# Altium footprint library STM32f103VET6.PcbLib: 28 footprints (part 2 of 2)
Each footprint in its own frame and in the unit in brackets; x right, y up, seen from the top. Pads: shape width x height; smd on the part's side, far side on the other; paste and mask are expansions set on the pad; w line width, h text height; cw(c..) or ccw(c..) is an arc to the next point about the centre after c.
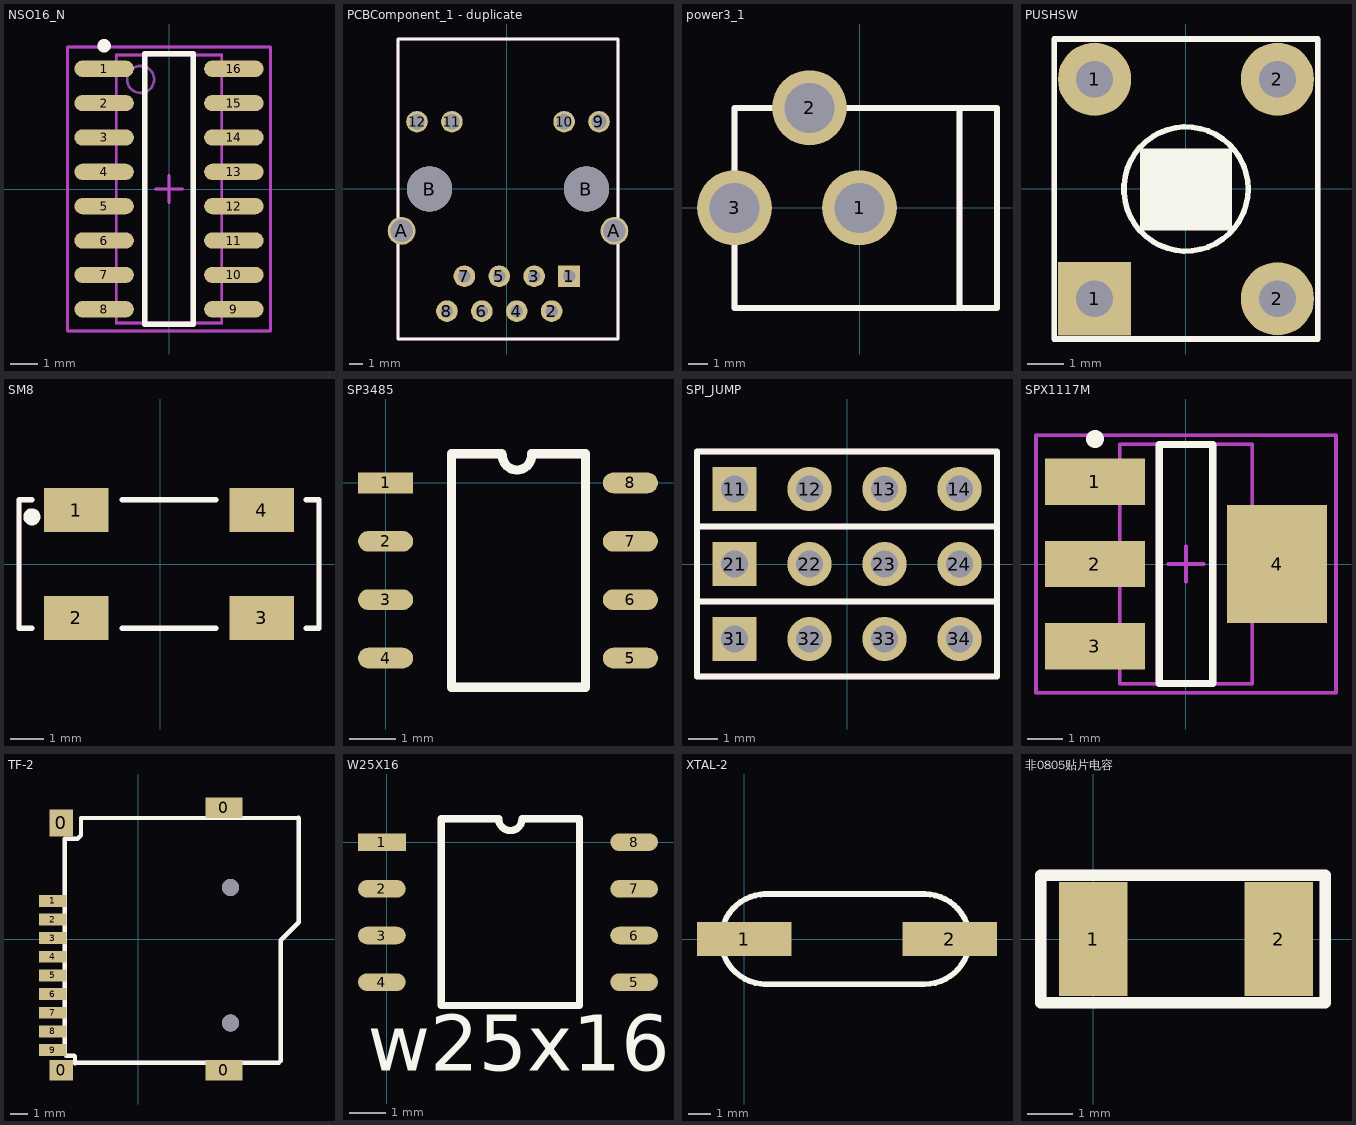
[diagram p1: the footprints below, top view; thin cyan lines are the x and y axes]

## NSO16_N [mm] "SOIC, 16-Leads, Body 9.9x3.9mm, Pitch 1.27mm, IPC Medium Density"
height 1.75
pads (16):
  oval 2.2x0.6 smd: 1(-2.4,4.445) 2(-2.4,3.175) 3(-2.4,1.905) 4(-2.4,0.635) 5(-2.4,-0.635) 6(-2.4,-1.905) 7(-2.4,-3.175) 8(-2.4,-4.445) 9(2.4,-4.445) 10(2.4,-3.175) 11(2.4,-1.905) 12(2.4,-0.635) 13(2.4,0.635) 14(2.4,1.905) 15(2.4,3.175) 16(2.4,4.445)
Top Overlay:
  circle w0.25: c-2.4,5.295 r0.125
Top Overlay keep-out:
  lines w0.2: -0.9,-5 0.9,-5 0.9,5 -0.9,5 -0.9,-5
Mechanical 13:
  circle w0.1: c-1.05,4.05 r0.5
Mechanical 13 keep-out:
  lines w0.1: -1.95,-4.95 1.95,-4.95 1.95,4.95 -1.95,4.95 -1.95,-4.95
Mechanical 15 keep-out:
  lines w0.1: -0.5,0 0.5,0 ; 0,-0.5 0,0.5 ; -3.75,-5.25 3.75,-5.25 3.75,5.25 -3.75,5.25 -3.75,-5.25
3D body: height 1.75, standoff 0, extent -1.95,-4.95 1.95,4.95

## PCBComponent_1 - duplicate [mil]
pads (16):
  rect 62x62 hole 36: 1(179,-251.39)
  round 62 hole 36: 2(129,-351.39) 3(79,-251.39) 4(29,-351.39) 5(-21,-251.39) 6(-71,-351.39) 7(-121,-251.39) 8(-171,-351.39)
  round 62 hole 43.31: 9(264.83,191.53) 10(164.83,191.53) 11(-156.83,191.53) 12(-256.83,191.53)
  round 80 hole 65: A(-301,-121.39) A(309,-121.39)
  round 130 hole 130: B(-221,-1.39) B(229,-1.39)
Top Overlay keep-out:
  lines w8: -311,-431.39 319,-431.39 319,428.61 -311,428.61 -311,-431.39

## power3_1 [mm]
pads (3):
  round 3.81 hole 2.54: 1(0,0) 2(-2.54,5.08) 3(-6.35,0)
Top Overlay keep-out:
  lines w0.305: 5.08,-5.08 5.08,5.08 ; -6.35,-5.08 6.985,-5.08 6.985,5.08 -6.35,5.08 -6.35,0 -6.35,-5.08

## PUSHSW [mm]
pads (4):
  rect 2x2 hole 1: 1(-2.488,-3.007)
  round 2 hole 1: 1(-2.488,2.993) 2(2.512,-3.007) 2(2.512,2.993)
Top Overlay:
  circle w0.152: c0.012,-0.007 r1.698
  rectangle: -1.244,-1.136 1.27,1.099
Top Overlay keep-out:
  lines w0.152: -3.588,-4.107 -3.588,4.093 3.612,4.093 3.612,-4.107 -3.588,-4.107

## SM8 [mm]
pads (4):
  rect 1.9x1.3 smd: 1(-2.496,1.6) 2(-2.496,-1.6) 3(3.004,-1.6) 4(3.004,1.6)
Top Overlay:
  circle w0.254: c-3.81,1.397 r0.127
Top Overlay keep-out:
  lines w0.152: -3.81,-1.905 -4.191,-1.905 -4.191,1.905 -3.81,1.905 ; -1.143,-1.905 1.651,-1.905 ; -1.143,1.905 1.651,1.905 ; 4.318,-1.905 4.699,-1.905 4.699,-1.651 4.699,1.651 4.699,1.905 4.318,1.905

## SP3485 [mm]
pads (8):
  rect 1.2x0.45 smd: 1(0,0)
  oval 1.2x0.45 smd: 2(0,-1.27) 3(0,-2.54) 4(0,-3.81) 5(5.325,-3.81) 6(5.325,-2.54) 7(5.325,-1.27) 8(5.325,0)
Top Overlay:
  lines w0.2: 2.54,0.6 ccw(c2.857,0.6) 3.175,0.6
Top Overlay keep-out:
  lines w0.2: 2.525,0.635 1.435,0.635 1.435,-4.445 4.35,-4.445 4.35,0.635 3.175,0.635

## SPI_JUMP [mm]
pads (12):
  rect 1.5x1.5 hole 0.9: 11(-3.81,2.54) 21(-3.81,0) 31(-3.81,-2.54)
  round 1.5 hole 0.9: 12(-1.27,2.54) 13(1.27,2.54) 14(3.81,2.54) 22(-1.27,0) 23(1.27,0) 24(3.81,0) 32(-1.27,-2.54) 33(1.27,-2.54) 34(3.81,-2.54)
Top Overlay keep-out:
  lines w0.2: -5.08,-1.27 5.08,-1.27 ; -5.08,-1.27 -5.08,-3.81 5.08,-3.81 5.08,-1.27 ; -5.08,-1.27 5.08,-1.27 ; -5.08,-1.27 -5.08,1.27 ; -5.08,1.27 5.08,1.27 ; -5.08,1.27 -5.08,3.81 5.08,3.81 5.08,1.27 ; -5.08,1.27 5.08,1.27 ; 5.08,-1.27 5.08,1.27

## SPX1117M [mm]
height 1.55
pads (4):
  rect 2.8x1.3 smd: 1(-2.55,2.3) 2(-2.55,0) 3(-2.55,-2.3)
  rect 2.8x3.3 smd: 4(2.55,0)
Top Overlay:
  circle w0.25: c-2.55,3.5 r0.125
Top Overlay keep-out:
  lines w0.2: -0.75,-3.35 0.75,-3.35 0.75,3.35 -0.75,3.35 -0.75,-3.35
Mechanical 13 keep-out:
  lines w0.1: -1.855,-3.35 1.855,-3.35 1.855,3.35 -1.855,3.35 -1.855,-3.35
Mechanical 15 keep-out:
  lines w0.1: -0.5,0 0.5,0 ; 0,-0.5 0,0.5 ; -4.2,-3.6 4.2,-3.6 4.2,3.6 -4.2,3.6 -4.2,-3.6
3D body: height 1.55, standoff 0.25, extent -1.855,-3.398 1.855,3.302

## TF-2 [mm]
pads (13):
  rect 1.4x1.2 smd: 0(-4.55,-7.75)
  rect 1.4x1.6 smd: 0(-4.55,6.85)
  rect 2.2x1.2 smd: 0(5.05,-7.75) 0(5.05,7.75)
  rect 1.6x0.7 smd: 1(-5.05,2.25) 2(-5.05,1.15) 3(-5.05,0.05) 4(-5.05,-1.05) 5(-5.05,-2.15) 6(-5.05,-3.25) 7(-5.05,-4.35) 8(-5.05,-5.45) 9(-5.05,-6.55)
via 5.45,-4.95 diameter 1 hole 1
via 5.45,3.05 diameter 1 hole 1
Top Layer keep-out:
  lines w0.254: -3.738,-7.344 -3.688,-7.293
Top Overlay keep-out:
  lines w0.254: -3.738,-7.344 -3.738,-6.937 -3.789,-6.886 -4.246,-6.886 -4.348,-6.785 -4.348,5.915 -3.586,5.915 -3.383,6.118 -3.383,7.134 9.45,7.15 ; -3.688,-7.293 8.301,-7.293 8.403,-7.191 8.403,-0.079 9.47,0.988 9.47,7.13

## W25X16 [mm]
pads (8):
  rect 1.3x0.48 smd: 1(-0.127,0)
  oval 1.3x0.48 smd: 2(-0.127,-1.27) 3(-0.127,-2.54) 4(-0.127,-3.81) 5(6.74,-3.81) 6(6.74,-2.54) 7(6.74,-1.27) 8(6.74,0)
Top Overlay:
  lines w0.2: 3.052,0.635 ccw(c3.37,0.635) 3.687,0.635
  text "w25x16" at -0.508,-6.223 h1.52
Top Overlay keep-out:
  lines w0.2: 3.052,0.635 1.485,0.635 1.485,-4.445 5.255,-4.445 5.255,0.635 3.687,0.635

## XTAL-2 [mm]
pads (2):
  rect 4.2x1.5 smd: 1(0,0) 2(9.119,0)
Top Overlay:
  lines w0.254: 0.965,-2.007 cw(c0.965,-0.007) 0.965,1.993 ; 8.001,-2.007 ccw(c8.001,-0.007) 8.001,1.993
Top Overlay keep-out:
  lines w0.254: 0.889,-2.007 7.976,-2.007 ; 0.889,1.993 8.026,1.993

## 非0805贴片电容 [mm]
pads (2):
  rect 1.5x2.5 smd: 1(0,0) 2(4.064,0)
Top Overlay keep-out:
  lines w0.254: -1.143,-1.397 -1.143,1.397 5.08,1.397 5.08,-1.397 -1.143,-1.397